# EAGLE library part ADUM1201ARZ (library IC_for_Selfbus-Projects)
Dual-Channel Digital Isolators
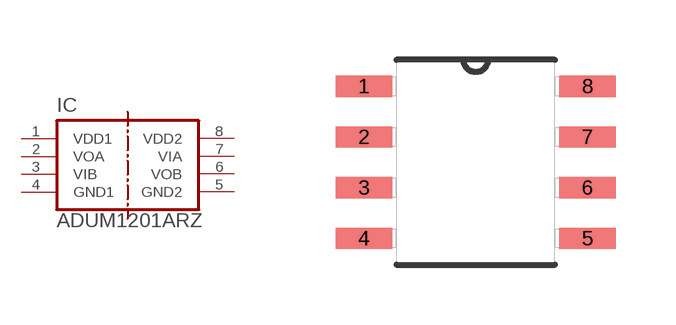
[diagram p2: symbol with the pads of SOIC127P600X175-8N; footprint SOIC127P600X175-8N]

Designator prefix IC

## ADUM1201ARZ (MPN: ADUM1201ARZ; OC_FARNELL: 1078200; OC_NEWARK: 19M0753; PACKAGE: SOIC-8; SUPPLIER: Analog Devices)  [SOIC127P600X175-8N]
1  VDD1  pwr
2  VOA  out
3  VIB  in
4  GND1  pas
5  GND2  pas
6  VOB  out
7  VIA  in
8  VDD2  pwr

## Footprint SOIC127P600X175-8N (pad centres in mm)
Small Outline Package
smd 1.422 x 0.533: 1 -2.794,1.27; 2 -2.794,0; 3 -2.794,-1.27; 4 -2.794,-2.54; 5 2.794,-2.54; 6 2.794,-1.27; 7 2.794,0; 8 2.794,1.27